# Altium integrated library Atmel Microcontroller AVR XMEGA.IntLib: 76 symbols (part 5 of 5)
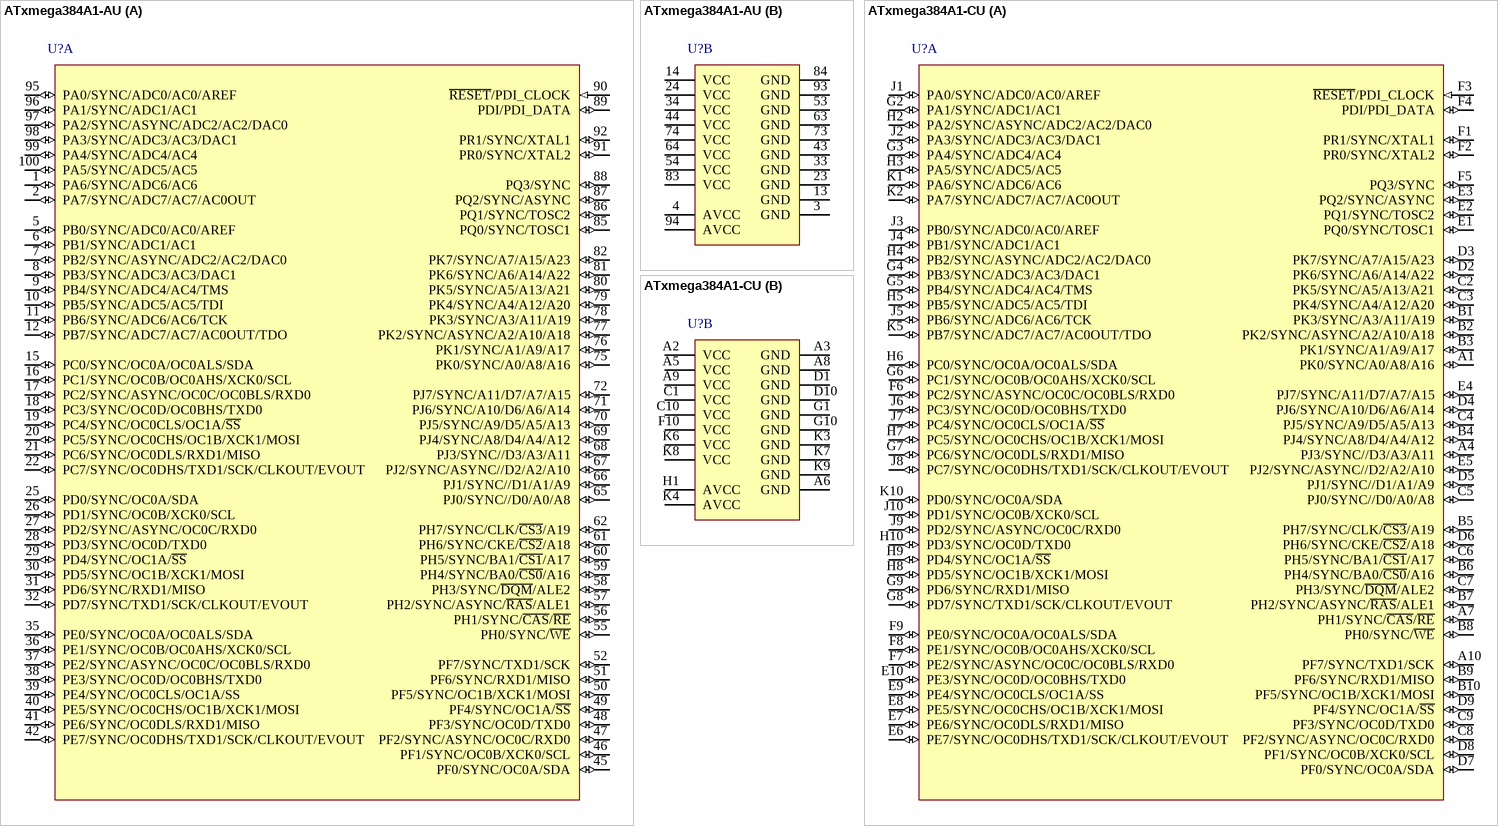
[diagram p26: symbols ATxmega384A1-AU to ATxmega384A1-CU]

## ATxmega384A1-AU
designator U?
8/16-bit AVR XMEGA A1 Microcontroller, 1.6-3.6V, 32MHz, 384KB + 8KB Flash, 4KB EEPROM, 32KB SRAM, 100-pin TQFP, Industrial Grade (-40°C to 85°C), Pb-Free; DatasheetVersion: revM, Sep-2010; PackageVersion: revD, Oct-2010; PackageReference: 100A; PackageDescription: 100-Pin Thin Profile Plastic Quad Flat Pack (TQFP), 14 x 14 x 1.0 mm Body, 0.5 mm Pitch; Code_JEDEC: MS-026-AED; ComponentLink1Description: Manufacturer URL; ComponentLink1URL: http://www.atmel.com/; ComponentLink2Description: ATxmega64A1/128A1/192A1/256A1/384A1 Datasheet; ComponentLink2URL: http://www.atmel.com/dyn/resources/prod_documents/doc8067.pdf
footprint 100A_N (Thin QFP, 100-Leads, Body 14x14mm, Pitch 0.5mm, IPC Medium Density)
footprint 100A_L (Thin QFP, 100-Leads, Body 14x14mm, Pitch 0.5mm, IPC High Density)
footprint 100A_M (Thin QFP, 100-Leads, Body 14x14mm, Pitch 0.5mm, IPC Low Density)
part A pins: 1 PA6/SYNC/ADC6/AC6 (io), 2 PA7/SYNC/ADC7/AC7/AC0OUT (io), 5 PB0/SYNC/ADC0/AC0/AREF (io), 6 PB1/SYNC/ADC1/AC1 (io), 7 PB2/SYNC/ASYNC/ADC2/AC2/DAC0 (io), 8 PB3/SYNC/ADC3/AC3/DAC1 (io), 9 PB4/SYNC/ADC4/AC4/TMS (io), 10 PB5/SYNC/ADC5/AC5/TDI (io), 11 PB6/SYNC/ADC6/AC6/TCK (io), 12 PB7/SYNC/ADC7/AC7/AC0OUT/TDO (io), 15 PC0/SYNC/OC0A/OC0ALS/SDA (io), 16 PC1/SYNC/OC0B/OC0AHS/XCK0/SCL (io), 17 PC2/SYNC/ASYNC/OC0C/OC0BLS/RXD0 (io), 18 PC3/SYNC/OC0D/OC0BHS/TXD0 (io), 19 PC4/SYNC/OC0CLS/OC1A/~{SS} (io), 20 PC5/SYNC/OC0CHS/OC1B/XCK1/MOSI (io), 21 PC6/SYNC/OC0DLS/RXD1/MISO (io), 22 PC7/SYNC/OC0DHS/TXD1/SCK/CLKOUT/EVOUT (io), 25 PD0/SYNC/OC0A/SDA (io), 26 PD1/SYNC/OC0B/XCK0/SCL (io), 27 PD2/SYNC/ASYNC/OC0C/RXD0 (io), 28 PD3/SYNC/OC0D/TXD0 (io), 29 PD4/SYNC/OC1A/~{SS} (io), 30 PD5/SYNC/OC1B/XCK1/MOSI (io), 31 PD6/SYNC/RXD1/MISO (io), 32 PD7/SYNC/TXD1/SCK/CLKOUT/EVOUT (io), 35 PE0/SYNC/OC0A/OC0ALS/SDA (io), 36 PE1/SYNC/OC0B/OC0AHS/XCK0/SCL (io), 37 PE2/SYNC/ASYNC/OC0C/OC0BLS/RXD0 (io), 38 PE3/SYNC/OC0D/OC0BHS/TXD0 (io), 39 PE4/SYNC/OC0CLS/OC1A/SS (io), 40 PE5/SYNC/OC0CHS/OC1B/XCK1/MOSI (io), 41 PE6/SYNC/OC0DLS/RXD1/MISO (io), 42 PE7/SYNC/OC0DHS/TXD1/SCK/CLKOUT/EVOUT (io), 45 PF0/SYNC/OC0A/SDA (io), 46 PF1/SYNC/OC0B/XCK0/SCL (io), 47 PF2/SYNC/ASYNC/OC0C/RXD0 (io), 48 PF3/SYNC/OC0D/TXD0 (io), 49 PF4/SYNC/OC1A/~{SS} (io), 50 PF5/SYNC/OC1B/XCK1/MOSI (io), 51 PF6/SYNC/RXD1/MISO (io), 52 PF7/SYNC/TXD1/SCK (io), 55 PH0/SYNC/~{WE} (io), 56 PH1/SYNC/~{CAS}/~{RE} (io), 57 PH2/SYNC/ASYNC/~{RAS}/ALE1 (io), 58 PH3/SYNC/~{DQM}/ALE2 (io), 59 PH4/SYNC/BA0/~{CS0}/A16 (io), 60 PH5/SYNC/BA1/~{CS1}/A17 (io), 61 PH6/SYNC/CKE/~{CS2}/A18 (io), 62 PH7/SYNC/CLK/~{CS3}/A19 (io), 65 PJ0/SYNC//D0/A0/A8 (io), 66 PJ1/SYNC//D1/A1/A9 (io), 67 PJ2/SYNC/ASYNC//D2/A2/A10 (io), 68 PJ3/SYNC//D3/A3/A11 (io), 69 PJ4/SYNC/A8/D4/A4/A12 (io), 70 PJ5/SYNC/A9/D5/A5/A13 (io), 71 PJ6/SYNC/A10/D6/A6/A14 (io), 72 PJ7/SYNC/A11/D7/A7/A15 (io), 75 PK0/SYNC/A0/A8/A16 (io), 76 PK1/SYNC/A1/A9/A17 (io), 77 PK2/SYNC/ASYNC/A2/A10/A18 (io), 78 PK3/SYNC/A3/A11/A19 (io), 79 PK4/SYNC/A4/A12/A20 (io), 80 PK5/SYNC/A5/A13/A21 (io), 81 PK6/SYNC/A6/A14/A22 (io), 82 PK7/SYNC/A7/A15/A23 (io), 85 PQ0/SYNC/TOSC1 (io), 86 PQ1/SYNC/TOSC2 (io), 87 PQ2/SYNC/ASYNC (io), 88 PQ3/SYNC (io), 89 PDI/PDI_DATA (io), 90 ~{RESET}/PDI_CLOCK (in), 91 PR0/SYNC/XTAL2 (io), 92 PR1/SYNC/XTAL1 (io), 95 PA0/SYNC/ADC0/AC0/AREF (io), 96 PA1/SYNC/ADC1/AC1 (io), 97 PA2/SYNC/ASYNC/ADC2/AC2/DAC0 (io), 98 PA3/SYNC/ADC3/AC3/DAC1 (io), 99 PA4/SYNC/ADC4/AC4 (io), 100 PA5/SYNC/ADC5/AC5 (io)
part B pins: 3 GND (power), 4 AVCC (power), 13 GND (power), 14 VCC (power), 23 GND (power), 24 VCC (power), 33 GND (power), 34 VCC (power), 43 GND (power), 44 VCC (power), 53 GND (power), 54 VCC (power), 63 GND (power), 64 VCC (power), 73 GND (power), 74 VCC (power), 83 VCC (power), 84 GND (power), 93 GND (power), 94 AVCC (power)

## ATxmega384A1-CU
designator U?
8/16-bit AVR XMEGA A1 Microcontroller, 1.6-3.6V, 32MHz, 384KB + 8KB Flash, 4KB EEPROM, 32KB SRAM, 100-pin CBGA, Industrial Grade (-40°C to 85°C), Pb-Free; DatasheetVersion: revM, Sep-2010; PackageVersion: revA, May-2006; PackageReference: 100C1; PackageDescription: 100-Ball Chip Array BGA Package (CBGA), 9 x 9 x1.2 mm Body, 0.80 mm Pitch; ComponentLink1Description: Manufacturer URL; ComponentLink1URL: http://www.atmel.com/; ComponentLink2Description: ATxmega64A1/128A1/192A1/256A1/384A1 Datasheet; ComponentLink2URL: http://www.atmel.com/dyn/resources/prod_documents/doc8067.pdf
footprint 100C1 (BGA, 100-Leads, Body 9x9mm, Pitch 0.8mm)
part A pins: A1 PK0/SYNC/A0/A8/A16 (io), A4 PJ3/SYNC//D3/A3/A11 (io), A7 PH1/SYNC/~{CAS}/~{RE} (io), A10 PF7/SYNC/TXD1/SCK (io), B1 PK3/SYNC/A3/A11/A19 (io), B2 PK2/SYNC/ASYNC/A2/A10/A18 (io), B3 PK1/SYNC/A1/A9/A17 (io), B4 PJ4/SYNC/A8/D4/A4/A12 (io), B5 PH7/SYNC/CLK/~{CS3}/A19 (io), B6 PH4/SYNC/BA0/~{CS0}/A16 (io), B7 PH2/SYNC/ASYNC/~{RAS}/ALE1 (io), B8 PH0/SYNC/~{WE} (io), B9 PF6/SYNC/RXD1/MISO (io), B10 PF5/SYNC/OC1B/XCK1/MOSI (io), C2 PK5/SYNC/A5/A13/A21 (io), C3 PK4/SYNC/A4/A12/A20 (io), C4 PJ5/SYNC/A9/D5/A5/A13 (io), C5 PJ0/SYNC//D0/A0/A8 (io), C6 PH5/SYNC/BA1/~{CS1}/A17 (io), C7 PH3/SYNC/~{DQM}/ALE2 (io), C8 PF2/SYNC/ASYNC/OC0C/RXD0 (io), C9 PF3/SYNC/OC0D/TXD0 (io), D2 PK6/SYNC/A6/A14/A22 (io), D3 PK7/SYNC/A7/A15/A23 (io), D4 PJ6/SYNC/A10/D6/A6/A14 (io), D5 PJ1/SYNC//D1/A1/A9 (io), D6 PH6/SYNC/CKE/~{CS2}/A18 (io), D7 PF0/SYNC/OC0A/SDA (io), D8 PF1/SYNC/OC0B/XCK0/SCL (io), D9 PF4/SYNC/OC1A/~{SS} (io), E1 PQ0/SYNC/TOSC1 (io), E2 PQ1/SYNC/TOSC2 (io), E3 PQ2/SYNC/ASYNC (io), E4 PJ7/SYNC/A11/D7/A7/A15 (io), E5 PJ2/SYNC/ASYNC//D2/A2/A10 (io), E6 PE7/SYNC/OC0DHS/TXD1/SCK/CLKOUT/EVOUT (io), E7 PE6/SYNC/OC0DLS/RXD1/MISO (io), E8 PE5/SYNC/OC0CHS/OC1B/XCK1/MOSI (io), E9 PE4/SYNC/OC0CLS/OC1A/SS (io), E10 PE3/SYNC/OC0D/OC0BHS/TXD0 (io), F1 PR1/SYNC/XTAL1 (io), F2 PR0/SYNC/XTAL2 (io), F3 ~{RESET}/PDI_CLOCK (in), F4 PDI/PDI_DATA (io), F5 PQ3/SYNC (io), F6 PC2/SYNC/ASYNC/OC0C/OC0BLS/RXD0 (io), F7 PE2/SYNC/ASYNC/OC0C/OC0BLS/RXD0 (io), F8 PE1/SYNC/OC0B/OC0AHS/XCK0/SCL (io), F9 PE0/SYNC/OC0A/OC0ALS/SDA (io), G2 PA1/SYNC/ADC1/AC1 (io), G3 PA4/SYNC/ADC4/AC4 (io), G4 PB3/SYNC/ADC3/AC3/DAC1 (io), G5 PB4/SYNC/ADC4/AC4/TMS (io), G6 PC1/SYNC/OC0B/OC0AHS/XCK0/SCL (io), G7 PC6/SYNC/OC0DLS/RXD1/MISO (io), G8 PD7/SYNC/TXD1/SCK/CLKOUT/EVOUT (io), G9 PD6/SYNC/RXD1/MISO (io), H2 PA2/SYNC/ASYNC/ADC2/AC2/DAC0 (io), H3 PA5/SYNC/ADC5/AC5 (io), H4 PB2/SYNC/ASYNC/ADC2/AC2/DAC0 (io), H5 PB5/SYNC/ADC5/AC5/TDI (io), H6 PC0/SYNC/OC0A/OC0ALS/SDA (io), H7 PC5/SYNC/OC0CHS/OC1B/XCK1/MOSI (io), H8 PD5/SYNC/OC1B/XCK1/MOSI (io), H9 PD4/SYNC/OC1A/~{SS} (io), H10 PD3/SYNC/OC0D/TXD0 (io), J1 PA0/SYNC/ADC0/AC0/AREF (io), J2 PA3/SYNC/ADC3/AC3/DAC1 (io), J3 PB0/SYNC/ADC0/AC0/AREF (io), J4 PB1/SYNC/ADC1/AC1 (io), J5 PB6/SYNC/ADC6/AC6/TCK (io), J6 PC3/SYNC/OC0D/OC0BHS/TXD0 (io), J7 PC4/SYNC/OC0CLS/OC1A/~{SS} (io), J8 PC7/SYNC/OC0DHS/TXD1/SCK/CLKOUT/EVOUT (io), J9 PD2/SYNC/ASYNC/OC0C/RXD0 (io), J10 PD1/SYNC/OC0B/XCK0/SCL (io), K1 PA6/SYNC/ADC6/AC6 (io), K2 PA7/SYNC/ADC7/AC7/AC0OUT (io), K5 PB7/SYNC/ADC7/AC7/AC0OUT/TDO (io), K10 PD0/SYNC/OC0A/SDA (io)
part B pins: A2 VCC (power), A3 GND (power), A5 VCC (power), A6 GND (power), A8 GND (power), A9 VCC (power), C1 VCC (power), C10 VCC (power), D1 GND (power), D10 GND (power), F10 VCC (power), G1 GND (power), G10 GND (power), H1 AVCC (power), K3 GND (power), K4 AVCC (power), K6 VCC (power), K7 GND (power), K8 VCC (power), K9 GND (power)